# Altium schematic symbol library EMC1701-2-AIZL-TR.SchLib: 1 symbol
Pins are listed as number, name and electrical type; pins without a type are passive.

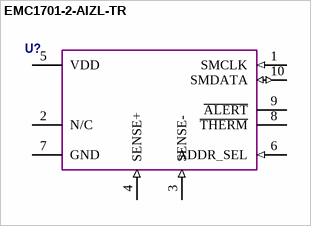
[diagram p0: symbol EMC1701-2-AIZL-TR]

## EMC1701-2-AIZL-TR
designator U?  (value not drawn)
Current & Power Monitors & Regulators USB Port Power Control w/ Emulation
pins: 1 SMCLK (in), 2 N/C, 3 SENSE- (in), 4 SENSE+ (in), 5 VDD (power), 6 ADDR_SEL (in), 7 GND (power), 8 ~{THERM} (oc), 9 ~{ALERT} (oc), 10 SMDATA (io)